# Altium footprint library Connector_Harwin.PcbLib: 102 footprints (part 7 of 7)
Each footprint in its own frame and in the unit in brackets; x right, y up, seen from the top. Pads: shape width x height; smd on the part's side, far side on the other; paste and mask are expansions set on the pad; w line width, h text height; cw(c..) or ccw(c..) is an arc to the next point about the centre after c.
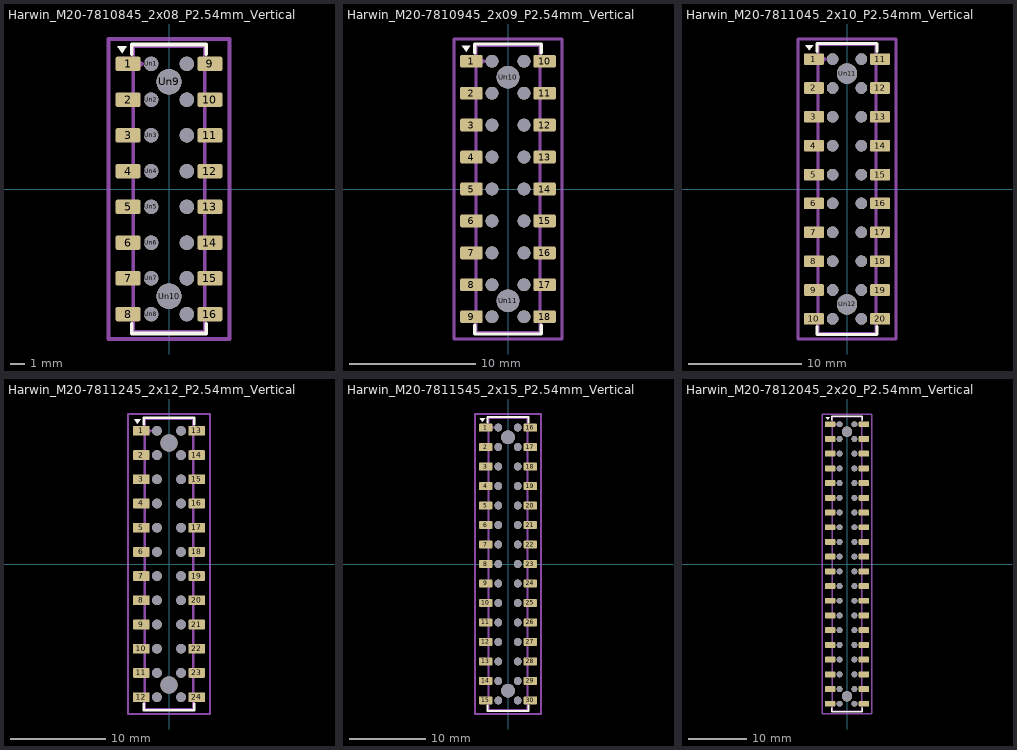
[diagram p6: the footprints below, top view; thin cyan lines are the x and y axes]

## Harwin_M20-7810845_2x08_P2.54mm_Vertical [mm]
pads (34):
  rrect25% 1.78x1.02 smd: 1(-2.91,8.89) 2(-2.91,6.35) 3(-2.91,3.81) 4(-2.91,1.27) 5(-2.91,-1.27) 6(-2.91,-3.81) 7(-2.91,-6.35) 8(-2.91,-8.89) 9(2.91,8.89) 10(2.91,6.35) 11(2.91,3.81) 12(2.91,1.27) 13(2.91,-1.27) 14(2.91,-3.81) 15(2.91,-6.35) 16(2.91,-8.89)
  round 1.02 hole 1.02: Un1(-1.27,8.89) Un2(-1.27,6.35) Un3(-1.27,3.81) Un4(-1.27,1.27) Un5(-1.27,-1.27) Un6(-1.27,-3.81) Un7(-1.27,-6.35) Un8(-1.27,-8.89) Un11(1.27,8.89) Un12(1.27,6.35) Un13(1.27,3.81) Un14(1.27,1.27) Un15(1.27,-1.27) Un16(1.27,-3.81) Un17(1.27,-6.35) Un18(1.27,-8.89)
  round 1.8 hole 1.8: Un9(0,7.62) Un10(0,-7.62)
F.SilkS:
  region: -3.33,9.66 -3.67,10.13 -2.99,10.13
  lines w0.254: -2.65,-9.57 -2.65,-10.27 2.65,-10.27 2.65,-9.57 ; -2.65,9.57 -2.65,10.27 2.65,10.27 2.65,9.57
Top Assembly:
  lines w0.254: -2.54,8.49 -1.9,8.89 -2.54,9.29 ; -2.54,-10.16 2.54,-10.16 2.54,10.16 -2.54,10.16 -2.54,-10.16
  text "'.Designator'" at -4.047,-0.84 h1
Top Courtyard:
  lines w0.254: -4.3,-10.66 4.3,-10.66 4.3,10.66 -4.3,10.66 -4.3,-10.66
Top Designator:
  text ".Designator" at -7.618,-0.508 h1.52

## Harwin_M20-7810945_2x09_P2.54mm_Vertical [mm]
pads (38):
  rrect25% 1.78x1.02 smd: 1(-2.91,10.16) 2(-2.91,7.62) 3(-2.91,5.08) 4(-2.91,2.54) 5(-2.91,0) 6(-2.91,-2.54) 7(-2.91,-5.08) 8(-2.91,-7.62) 9(-2.91,-10.16) 10(2.91,10.16) 11(2.91,7.62) 12(2.91,5.08) 13(2.91,2.54) 14(2.91,0) 15(2.91,-2.54) 16(2.91,-5.08) 17(2.91,-7.62) 18(2.91,-10.16)
  round 1.02 hole 1.02: Un1(-1.27,10.16) Un2(-1.27,7.62) Un3(-1.27,5.08) Un4(-1.27,2.54) Un5(-1.27,0) Un6(-1.27,-2.54) Un7(-1.27,-5.08) Un8(-1.27,-7.62) Un9(-1.27,-10.16) Un12(1.27,10.16) Un13(1.27,7.62) Un14(1.27,5.08) Un15(1.27,2.54) Un16(1.27,0) Un17(1.27,-2.54) Un18(1.27,-5.08) Un19(1.27,-7.62) Un20(1.27,-10.16)
  round 1.8 hole 1.8: Un10(0,8.89) Un11(0,-8.89)
F.SilkS:
  region: -3.33,10.93 -3.67,11.4 -2.99,11.4
  lines w0.254: -2.65,-10.84 -2.65,-11.54 2.65,-11.54 2.65,-10.84 ; -2.65,10.84 -2.65,11.54 2.65,11.54 2.65,10.84
Top Assembly:
  lines w0.254: -2.54,9.76 -1.9,10.16 -2.54,10.56 ; -2.54,-11.43 2.54,-11.43 2.54,11.43 -2.54,11.43 -2.54,-11.43
  text "'.Designator'" at -4.047,-0.84 h1
Top Courtyard:
  lines w0.254: -4.3,-11.93 4.3,-11.93 4.3,11.93 -4.3,11.93 -4.3,-11.93
Top Designator:
  text ".Designator" at -7.618,-0.508 h1.52

## Harwin_M20-7811045_2x10_P2.54mm_Vertical [mm]
pads (42):
  rrect25% 1.78x1.02 smd: 1(-2.91,11.43) 2(-2.91,8.89) 3(-2.91,6.35) 4(-2.91,3.81) 5(-2.91,1.27) 6(-2.91,-1.27) 7(-2.91,-3.81) 8(-2.91,-6.35) 9(-2.91,-8.89) 10(-2.91,-11.43) 11(2.91,11.43) 12(2.91,8.89) 13(2.91,6.35) 14(2.91,3.81) 15(2.91,1.27) 16(2.91,-1.27) 17(2.91,-3.81) 18(2.91,-6.35) 19(2.91,-8.89) 20(2.91,-11.43)
  round 1.02 hole 1.02: Un1(-1.27,11.43) Un2(-1.27,8.89) Un3(-1.27,6.35) Un4(-1.27,3.81) Un5(-1.27,1.27) Un6(-1.27,-1.27) Un7(-1.27,-3.81) Un8(-1.27,-6.35) Un9(-1.27,-8.89) Un10(-1.27,-11.43) Un13(1.27,11.43) Un14(1.27,8.89) Un15(1.27,6.35) Un16(1.27,3.81) Un17(1.27,1.27) Un18(1.27,-1.27) Un19(1.27,-3.81) Un20(1.27,-6.35) Un21(1.27,-8.89) Un22(1.27,-11.43)
  round 1.8 hole 1.8: Un11(0,10.16) Un12(0,-10.16)
F.SilkS:
  region: -3.33,12.2 -3.67,12.67 -2.99,12.67
  lines w0.254: -2.65,-12.11 -2.65,-12.81 2.65,-12.81 2.65,-12.11 ; -2.65,12.11 -2.65,12.81 2.65,12.81 2.65,12.11
Top Assembly:
  lines w0.254: -2.54,11.03 -1.9,11.43 -2.54,11.83 ; -2.54,-12.7 2.54,-12.7 2.54,12.7 -2.54,12.7 -2.54,-12.7
  text "'.Designator'" at -4.047,-0.84 h1
Top Courtyard:
  lines w0.254: -4.3,-13.2 4.3,-13.2 4.3,13.2 -4.3,13.2 -4.3,-13.2
Top Designator:
  text ".Designator" at -7.618,-0.508 h1.52

## Harwin_M20-7811245_2x12_P2.54mm_Vertical [mm]
pads (50):
  rrect25% 1.78x1.02 smd: 1(-2.91,13.97) 2(-2.91,11.43) 3(-2.91,8.89) 4(-2.91,6.35) 5(-2.91,3.81) 6(-2.91,1.27) 7(-2.91,-1.27) 8(-2.91,-3.81) 9(-2.91,-6.35) 10(-2.91,-8.89) 11(-2.91,-11.43) 12(-2.91,-13.97) 13(2.91,13.97) 14(2.91,11.43) 15(2.91,8.89) 16(2.91,6.35) 17(2.91,3.81) 18(2.91,1.27) 19(2.91,-1.27) 20(2.91,-3.81) 21(2.91,-6.35) 22(2.91,-8.89) 23(2.91,-11.43) 24(2.91,-13.97)
  round 1.02 hole 1.02: Un1(-1.27,13.97) Un2(-1.27,11.43) Un3(-1.27,8.89) Un4(-1.27,6.35) Un5(-1.27,3.81) Un6(-1.27,1.27) Un7(-1.27,-1.27) Un8(-1.27,-3.81) Un9(-1.27,-6.35) Un10(-1.27,-8.89) Un11(-1.27,-11.43) Un12(-1.27,-13.97) Un15(1.27,13.97) Un16(1.27,11.43) Un17(1.27,8.89) Un18(1.27,6.35) Un19(1.27,3.81) Un20(1.27,1.27) Un21(1.27,-1.27) Un22(1.27,-3.81) Un23(1.27,-6.35) Un24(1.27,-8.89) Un25(1.27,-11.43) Un26(1.27,-13.97)
  round 1.8 hole 1.8: Un13(0,12.7) Un14(0,-12.7)
F.SilkS:
  region: -3.33,14.74 -3.67,15.21 -2.99,15.21
  lines w0.254: -2.65,-14.65 -2.65,-15.35 2.65,-15.35 2.65,-14.65 ; -2.65,14.65 -2.65,15.35 2.65,15.35 2.65,14.65
Top Assembly:
  lines w0.254: -2.54,13.57 -1.9,13.97 -2.54,14.37 ; -2.54,-15.24 2.54,-15.24 2.54,15.24 -2.54,15.24 -2.54,-15.24
  text "'.Designator'" at -4.047,-0.84 h1
Top Courtyard:
  lines w0.254: -4.3,-15.74 4.3,-15.74 4.3,15.74 -4.3,15.74 -4.3,-15.74
Top Designator:
  text ".Designator" at -7.618,-0.508 h1.52

## Harwin_M20-7811545_2x15_P2.54mm_Vertical [mm]
pads (62):
  rrect25% 1.78x1.02 smd: 1(-2.91,17.78) 2(-2.91,15.24) 3(-2.91,12.7) 4(-2.91,10.16) 5(-2.91,7.62) 6(-2.91,5.08) 7(-2.91,2.54) 8(-2.91,0) 9(-2.91,-2.54) 10(-2.91,-5.08) 11(-2.91,-7.62) 12(-2.91,-10.16) 13(-2.91,-12.7) 14(-2.91,-15.24) 15(-2.91,-17.78) 16(2.91,17.78) 17(2.91,15.24) 18(2.91,12.7) 19(2.91,10.16) 20(2.91,7.62) 21(2.91,5.08) 22(2.91,2.54) 23(2.91,0) 24(2.91,-2.54) 25(2.91,-5.08) 26(2.91,-7.62) 27(2.91,-10.16) 28(2.91,-12.7) 29(2.91,-15.24) 30(2.91,-17.78)
  round 1.02 hole 1.02: Un1(-1.27,17.78) Un2(-1.27,15.24) Un3(-1.27,12.7) Un4(-1.27,10.16) Un5(-1.27,7.62) Un6(-1.27,5.08) Un7(-1.27,2.54) Un8(-1.27,0) Un9(-1.27,-2.54) Un10(-1.27,-5.08) Un11(-1.27,-7.62) Un12(-1.27,-10.16) Un13(-1.27,-12.7) Un14(-1.27,-15.24) Un15(-1.27,-17.78) Un18(1.27,17.78) Un19(1.27,15.24) Un20(1.27,12.7) Un21(1.27,10.16) Un22(1.27,7.62) Un23(1.27,5.08) Un24(1.27,2.54) Un25(1.27,0) Un26(1.27,-2.54) Un27(1.27,-5.08) Un28(1.27,-7.62) Un29(1.27,-10.16) Un30(1.27,-12.7) Un31(1.27,-15.24) Un32(1.27,-17.78)
  round 1.8 hole 1.8: Un16(0,16.51) Un17(0,-16.51)
F.SilkS:
  region: -3.33,18.55 -3.67,19.02 -2.99,19.02
  lines w0.254: -2.65,-18.46 -2.65,-19.16 2.65,-19.16 2.65,-18.46 ; -2.65,18.46 -2.65,19.16 2.65,19.16 2.65,18.46
Top Assembly:
  lines w0.254: -2.54,17.38 -1.9,17.78 -2.54,18.18 ; -2.54,-19.05 2.54,-19.05 2.54,19.05 -2.54,19.05 -2.54,-19.05
  text "'.Designator'" at -4.047,-0.84 h1
Top Courtyard:
  lines w0.254: -4.3,-19.55 4.3,-19.55 4.3,19.55 -4.3,19.55 -4.3,-19.55
Top Designator:
  text ".Designator" at -7.618,-0.508 h1.52

## Harwin_M20-7812045_2x20_P2.54mm_Vertical [mm]
pads (82):
  rrect25% 1.78x1.02 smd: 1(-2.91,24.13) 2(-2.91,21.59) 3(-2.91,19.05) 4(-2.91,16.51) 5(-2.91,13.97) 6(-2.91,11.43) 7(-2.91,8.89) 8(-2.91,6.35) 9(-2.91,3.81) 10(-2.91,1.27) 11(-2.91,-1.27) 12(-2.91,-3.81) 13(-2.91,-6.35) 14(-2.91,-8.89) 15(-2.91,-11.43) 16(-2.91,-13.97) 17(-2.91,-16.51) 18(-2.91,-19.05) 19(-2.91,-21.59) 20(-2.91,-24.13) 21(2.91,24.13) 22(2.91,21.59) 23(2.91,19.05) 24(2.91,16.51) 25(2.91,13.97) 26(2.91,11.43) 27(2.91,8.89) 28(2.91,6.35) 29(2.91,3.81) 30(2.91,1.27) 31(2.91,-1.27) 32(2.91,-3.81) 33(2.91,-6.35) 34(2.91,-8.89) 35(2.91,-11.43) 36(2.91,-13.97) 37(2.91,-16.51) 38(2.91,-19.05) 39(2.91,-21.59) 40(2.91,-24.13)
  round 1.02 hole 1.02: Un1(-1.27,24.13) Un2(-1.27,21.59) Un3(-1.27,19.05) Un4(-1.27,16.51) Un5(-1.27,13.97) Un6(-1.27,11.43) Un7(-1.27,8.89) Un8(-1.27,6.35) Un9(-1.27,3.81) Un10(-1.27,1.27) Un11(-1.27,-1.27) Un12(-1.27,-3.81) Un13(-1.27,-6.35) Un14(-1.27,-8.89) Un15(-1.27,-11.43) Un16(-1.27,-13.97) Un17(-1.27,-16.51) Un18(-1.27,-19.05) Un19(-1.27,-21.59) Un20(-1.27,-24.13) Un23(1.27,24.13) Un24(1.27,21.59) Un25(1.27,19.05) Un26(1.27,16.51) Un27(1.27,13.97) Un28(1.27,11.43) Un29(1.27,8.89) Un30(1.27,6.35) Un31(1.27,3.81) Un32(1.27,1.27) Un33(1.27,-1.27) Un34(1.27,-3.81) Un35(1.27,-6.35) Un36(1.27,-8.89) Un37(1.27,-11.43) Un38(1.27,-13.97) Un39(1.27,-16.51) Un40(1.27,-19.05) Un41(1.27,-21.59) Un42(1.27,-24.13)
  round 1.8 hole 1.8: Un21(0,22.86) Un22(0,-22.86)
F.SilkS:
  region: -3.33,24.9 -3.67,25.37 -2.99,25.37
  lines w0.254: -2.65,-24.81 -2.65,-25.51 2.65,-25.51 2.65,-24.81 ; -2.65,24.81 -2.65,25.51 2.65,25.51 2.65,24.81
Top Assembly:
  lines w0.254: -2.54,23.73 -1.9,24.13 -2.54,24.53 ; -2.54,-25.4 2.54,-25.4 2.54,25.4 -2.54,25.4 -2.54,-25.4
  text "'.Designator'" at -4.047,-0.84 h1
Top Courtyard:
  lines w0.254: -4.3,-25.9 4.3,-25.9 4.3,25.9 -4.3,25.9 -4.3,-25.9
Top Designator:
  text ".Designator" at -7.618,-0.508 h1.52